# Altium footprint library LED_FootprintLibrary.PcbLib: 11 footprints
Each footprint in its own frame and in the unit in brackets; x right, y up, seen from the top. Pads: shape width x height; smd on the part's side, far side on the other; paste and mask are expansions set on the pad; w line width, h text height; cw(c..) or ccw(c..) is an arc to the next point about the centre after c.
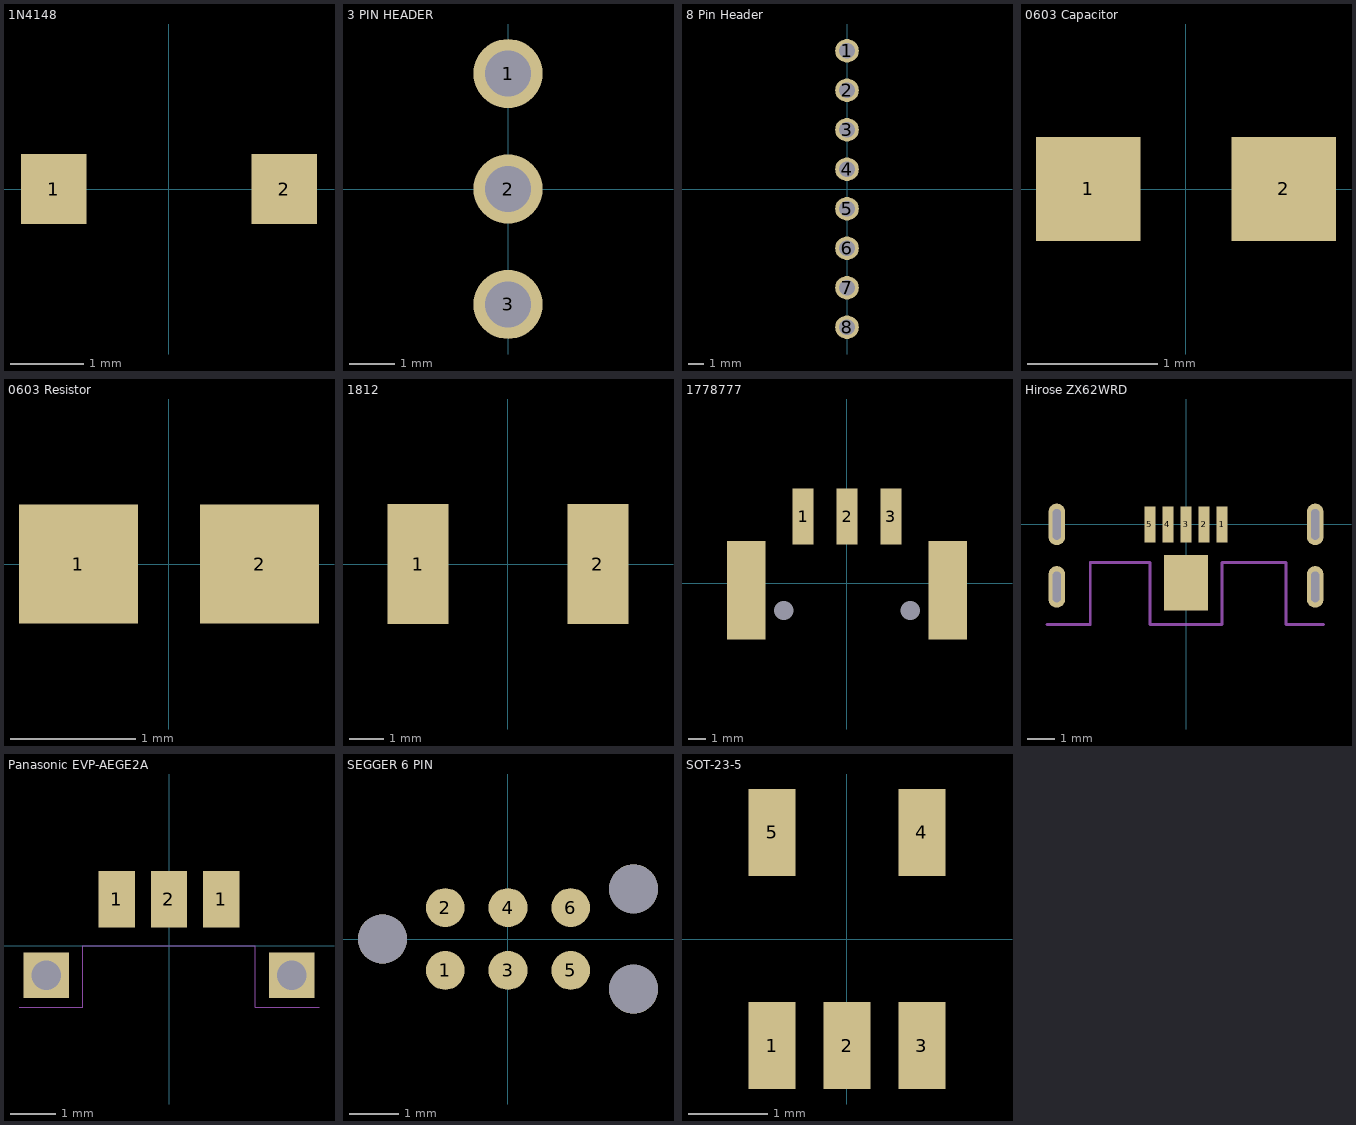
[diagram p0: the footprints below, top view; thin cyan lines are the x and y axes]

## 1N4148 [mm]
pads (2):
  rect 0.9x0.95 smd: 1(-1.575,0) 2(1.575,0)
3D body: height 1, standoff 0, extent -1.3,-0.7 1.3,0.7

## 3 PIN HEADER [mm]
pads (3):
  round 1.52 hole 1.02: 1(0,2.54) 2(0,0) 3(0,-2.54)

## 8 Pin Header [mm]
pads (8):
  round 1.52 hole 1.02 paste-1: 1(0,8.89)
  round 1.52 hole 1.02: 2(0,6.35) 3(0,3.81) 4(0,1.27) 5(0,-1.27) 6(0,-3.81) 7(0,-6.35) 8(0,-8.89)

## 0603 Capacitor [mm]
pads (2):
  rect 0.8x0.8 smd: 1(-0.75,0) 2(0.75,0)

## 0603 Resistor [mm]
pads (2):
  rect 0.95x0.95 smd: 1(-0.725,0) 2(0.725,0)

## 1812 [mm]
pads (2):
  rect 1.78x3.5 smd: 1(-2.615,0) 2(2.615,0)
3D body: height 1, standoff 0, extent -3.4,-1.7 3.4,1.7

## 1778777 [mm] "Phoenix Contact Interconnect"
pads (7):
  rect 1.2x3.2 smd: 1(-2.5,3.8) 2(0,3.8) 3(2.5,3.8)
  rect 2.2x5.6 smd: ""(-5.75,-0.4) ""(5.75,-0.4)
  round 0 hole 1.1 unplated: ""(-3.6,-1.55) ""(3.6,-1.55)
3D body "1778777.stp": height 5.01, standoff -0.69, extent -6.51,-4.455 6.59,5.045

## Hirose ZX62WRD [mm] "ZX62WRD-B-5PC"
pads (10):
  rect 0.4x1.3 smd mask+0.051: 1(1.3,0) 2(0.65,0) 3(0,0) 4(-0.65,0) 5(-1.3,0)
  oval 0.6x1.5 hole 0.3 slot 1.1 at 90 deg: ""(-4.65,-2.25) ""(-4.65,0) ""(4.65,-2.25) ""(4.65,0)
  rect 1.59x2 smd mask+0.051: ""(0,-2.1)
Mechanical 1:
  lines w0.1: -5,-3.6 -3.45,-3.6 -3.45,-1.375 -1.3,-1.375 -1.3,-3.6 1.3,-3.6 1.3,-1.375 3.6,-1.375 3.6,-3.6 4.95,-3.6
3D body "ZX62WRD-B-5PC.stp": height 2.91, standoff -0.72, extent -4.8,-4.577 4.8,0.508

## Panasonic EVP-AEGE2A [mm]
pads (5):
  rect 0.8x1.25 smd mask+0.051: 1(-1.15,1.025) 1(1.15,1.025) 2(0,1.025)
  rect 1x1 hole 0.65 unplated: ""(-2.7,-0.65) ""(2.7,-0.65)
Mechanical 1:
  lines w0.025: -3.3,-1.35 -1.9,-1.35 -1.9,0 1.9,0 1.9,-1.35 3.3,-1.35

## SEGGER 6 PIN [mil]
pads (9):
  round 30.98 smd: 1(-50,-25) 2(-50,25) 3(0,-25) 4(0,25) 5(50,-25) 6(50,25)
  round 39.02 hole 39.02 unplated: ""(-100,0) ""(100,-40) ""(100,40)

## SOT-23-5 [mm]
pads (5):
  rect 0.6x1.1 smd mask+0.051: 1(-0.95,-1.35) 2(0,-1.35) 3(0.95,-1.35) 4(0.95,1.35) 5(-0.95,1.35)
3D body "SOT23_5.stp": height 0.92, standoff 0.01, extent -1.5,-1.602 1.5,1.602